# Altium footprint library DFN6_3x3_3.PcbLib: 1 footprints
Each footprint in its own frame and in the unit in brackets; x right, y up, seen from the top. Pads: shape width x height; smd on the part's side, far side on the other; paste and mask are expansions set on the pad; w line width, h text height; cw(c..) or ccw(c..) is an arc to the next point about the centre after c.
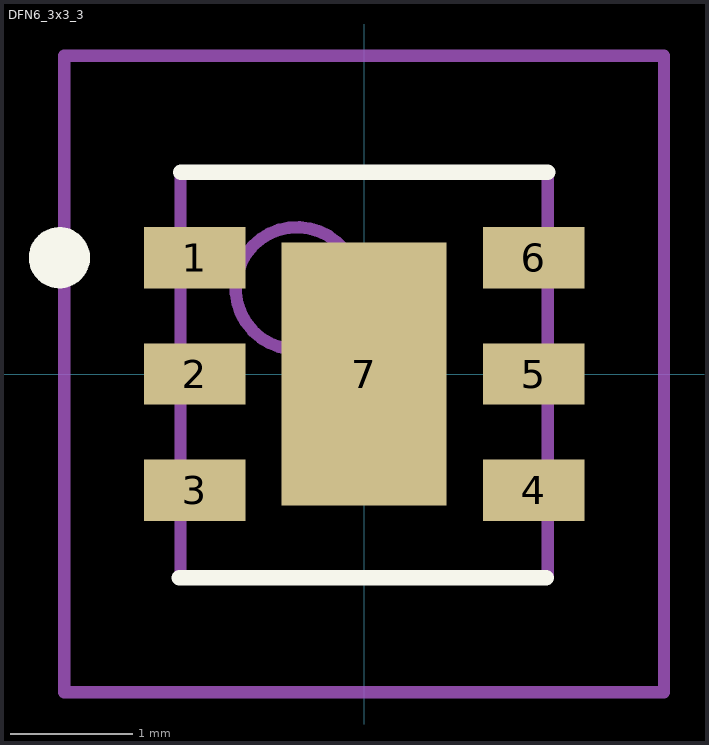
[diagram p0: the footprint, top view; thin cyan lines are the x and y axes]

## DFN6_3x3_3 [mm] "DFN6_3x3_3"
height 0.9
pads (7):
  rect 0.83x0.5 smd: 1(-1.385,0.95) 2(-1.385,0) 3(-1.385,-0.95) 4(1.385,-0.95) 5(1.385,0) 6(1.385,0.95)
  rect 1.35x2.15 smd: 7(0,0)
Top Overlay:
  circle w0.25: c-2.49,0.95 r0.125
  lines w0.127: -1.512,-1.665 1.488,-1.665 ; -1.5,1.65 1.5,1.65
Mechanical 13:
  circle w0.1: c-0.55,0.7 r0.5
  lines w0.1: -1.5,-1.65 -1.5,1.65 1.5,1.65 1.5,-1.65 -1.5,-1.65
Mechanical 15:
  lines w0.1: -0.5,0 0.5,0 ; 0,-0.5 0,0.5 ; -2.45,-2.6 -2.45,2.6 2.45,2.6 2.45,-2.6 -2.45,-2.6
3D body "User Library-dfn6_3x3_rm0_95.step": height 0.75, standoff -0.05, extent -1.55,-1.499 1.55,1.501